# EAGLE library part OLED-ADAFRUIT-SPI (library p.peter-periphery)
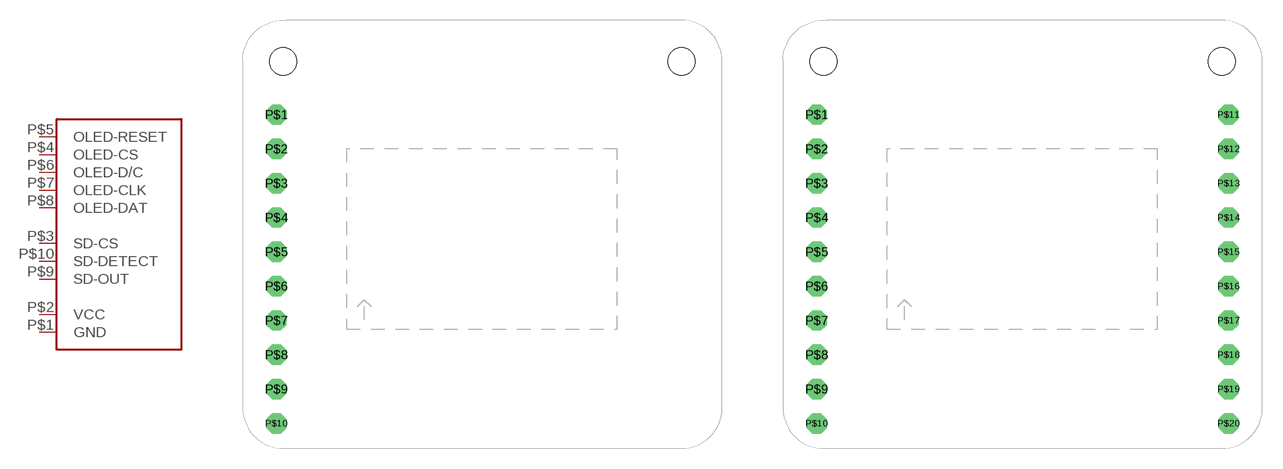
[diagram p5: symbol with the pads of OLED-ADAFRUIT-0.96-RGB-SPI; footprints OLED-ADAFRUIT-0.96-RGB-SPI, OLED-ADAFRUIT-0.96-RGB]

Designator prefix -

## OLED-ADAFRUIT-SPISPI-ONLY  [OLED-ADAFRUIT-0.96-RGB-SPI]
P$1  GND
P$2  VCC
P$3  SD-CS
P$4  OLED-CS
P$5  OLED-RESET
P$6  OLED-D/C
P$7  OLED-CLK
P$8  OLED-DAT
P$9  SD-OUT
P$10  SD-DETECT

## OLED-ADAFRUIT-SPIDUAL-ROW  [OLED-ADAFRUIT-0.96-RGB]
Pads as for OLED-ADAFRUIT-0.96-RGB-SPI

## Footprint OLED-ADAFRUIT-0.96-RGB-SPI (pad centres in mm)
drill 1 octagon: P$1 2.489,24.714; P$2 2.489,22.174; P$3 2.489,19.634; P$4 2.489,17.094; P$5 2.489,14.554; P$6 2.489,12.014; P$7 2.489,9.474; P$8 2.489,6.934; P$9 2.489,4.394; P$10 2.489,1.854
hole 2 at 3,28.65
hole 2 at 32.46,28.65

## Footprint OLED-ADAFRUIT-0.96-RGB (pad centres in mm)
drill 1 octagon: P$1 2.489,24.714; P$2 2.489,22.174; P$3 2.489,19.634; P$4 2.489,17.094; P$5 2.489,14.554; P$6 2.489,12.014; P$7 2.489,9.474; P$8 2.489,6.934; P$9 2.489,4.394; P$10 2.489,1.854; P$11 32.969,24.714; P$12 32.969,22.174; P$13 32.969,19.634; P$14 32.969,17.094; P$15 32.969,14.554; P$16 32.969,12.014; P$17 32.969,9.474; P$18 32.969,6.934; P$19 32.969,4.394; P$20 32.969,1.854
hole 2 at 3,28.65
hole 2 at 32.46,28.65